# Altium footprint library BB-HEADER-DUAL-P01-P34.PcbLib: 1 footprints
Each footprint in its own frame and in the unit in brackets; x right, y up, seen from the top. Pads: shape width x height; smd on the part's side, far side on the other; paste and mask are expansions set on the pad; w line width, h text height; cw(c..) or ccw(c..) is an arc to the next point about the centre after c.
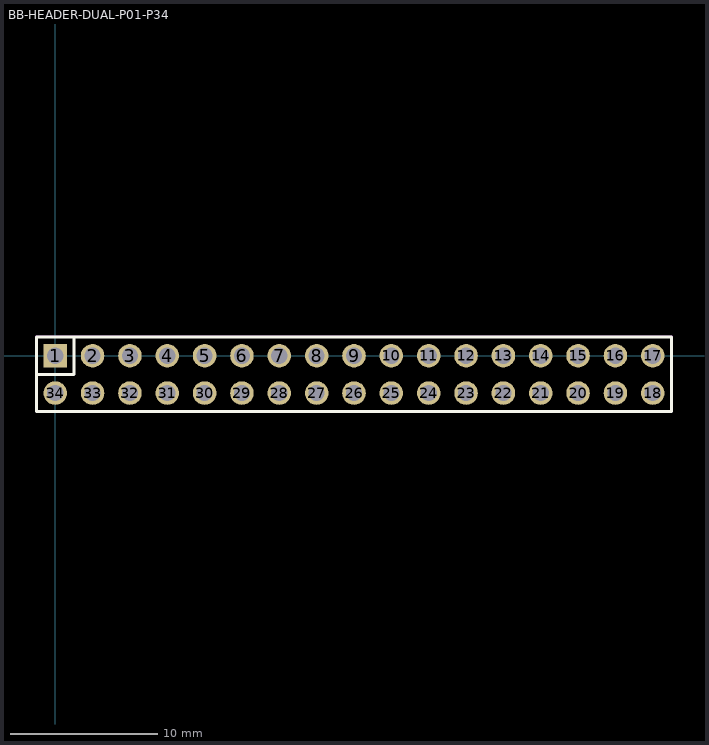
[diagram p0: the footprint, top view; thin cyan lines are the x and y axes]

## BB-HEADER-DUAL-P01-P34 [mm] "Dual Row BB Header, Vertical, Male, 0.1\"2.54mm,P01-P34"
height 11.6
pads (34):
  rect 1.6x1.6 hole 1.1: 1(0,0)
  round 1.6 hole 1.1: 2(2.54,0) 3(5.08,0) 4(7.62,0) 5(10.16,0) 6(12.7,0) 7(15.24,0) 8(17.78,0) 9(20.32,0) 10(22.86,0) 11(25.4,0) 12(27.94,0) 13(30.48,0) 14(33.02,0) 15(35.56,0) 16(38.1,0) 17(40.64,0)
  round 1.6 hole 1.1 unplated: 18(40.64,-2.54) 19(38.1,-2.54) 20(35.56,-2.54) 21(33.02,-2.54) 22(30.48,-2.54) 23(27.94,-2.54) 24(25.4,-2.54) 25(22.86,-2.54) 26(20.32,-2.54) 27(17.78,-2.54) 28(15.24,-2.54) 29(12.7,-2.54) 30(10.16,-2.54) 31(7.62,-2.54) 32(5.08,-2.54) 33(2.54,-2.54) 34(0,-2.54)
Top Overlay:
  lines w0.2: -1.27,-1.27 1.27,-1.27 1.27,1.27 ; -1.27,-3.81 41.91,-3.81 41.91,1.27 0.635,1.27 -1.27,1.27 -1.27,-3.81
Mechanical 13:
  lines w0.1: -1.27,-3.81 41.91,-3.81 41.91,1.27 -1.27,1.27 -1.27,-3.81
Mechanical 15:
  lines w0.1: -1.32,-3.81 -1.32,1.32 41.96,1.32 41.96,-3.81 -1.32,-3.81
3D body: height 8.51, standoff -2.99, extent -1.27,-1.27 41.91,1.27
3D body: height 8.51, standoff -2.99, extent -1.27,-3.81 41.91,-1.27